# EAGLE library part LM358N (library OP)
LM358
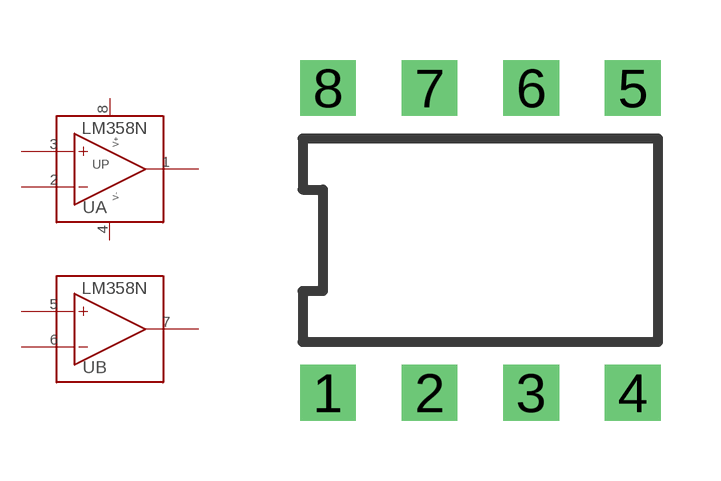
[diagram p7: symbol with the pads of DIL8; footprint DIL8]

Designator prefix U; gates A=DIN_OP B=DIN_OP P=PWR+-

## LM358N  [DIL8]
1  A:OUT  out
2  A:-IN  in
3  A:+IN  in
4  P:V-  pwr
5  B:+IN  in
6  B:-IN  in
7  B:OUT  out
8  P:V+  pwr

## Footprint DIL8 (pad centres in mm)
drill 0.8 pad 1.397 square: 1 0,0; 2 2.54,0; 3 5.08,0; 4 7.62,0; 5 7.62,7.62; 6 5.08,7.62; 7 2.54,7.62; 8 0,7.62